# Altium integrated library Micron Memory Parallel NOR Flash.IntLib: 720 symbols (part 122 of 216)
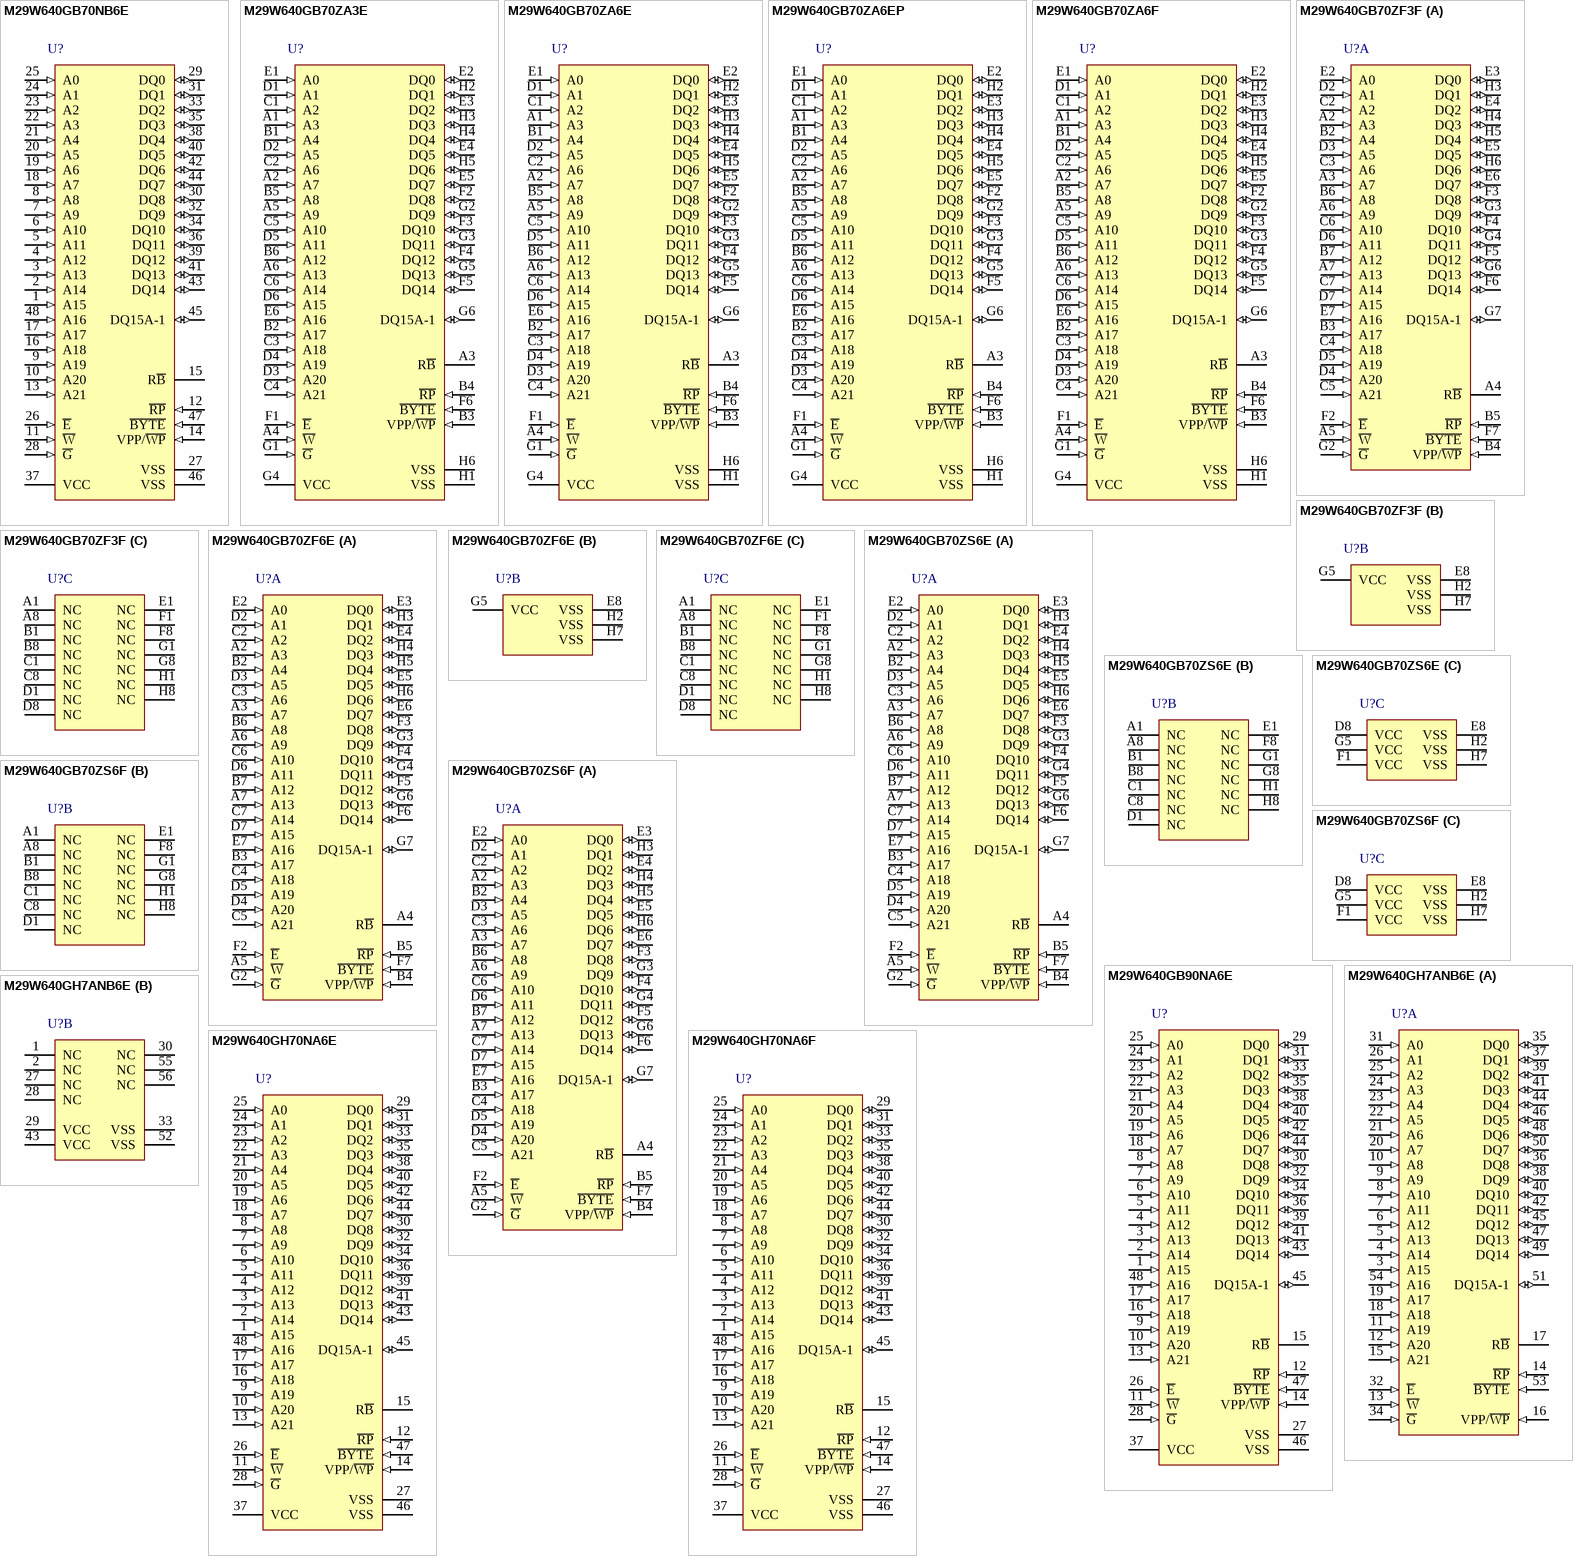
[diagram p164: symbols M29W640GB70NB6E to M29W640GH70NA6F]

## M29W640GH7ANB6E
designator U?
64 Mb (x8/x16) Automotive Parallel NOR Flash Memory, 70 ns, 2.7 to 3.6 V, 56-pin TSOP (NB), Tray; Part Family: M29W; Manufacturer: Micron; PartNumber: M29W640GH7ANB6E; Density: 64Mb; Op Temp: -40C to +85C; Speed: 70ns; Voltage: 2.7V-3.6V; DatasheetVersion: Rev. 11; PackageVersion: Rev. 11; PackageReference: MICT-NB-56; PackageDescription: 56-Pin TSOP, 18.4 X 14 mm, Pitch 0.5 mm; RoHS: Yes; Width: x8/x16; Mounting Technology: Surface Mount; ComponentLink1Description: Manufacturer URL; ComponentLink1URL: http://www.micron.com/; ComponentLink2Description: Datasheet; ComponentLink2URL: http://www.micron.com/~/media/Documents/Products/Data%20Sheet/NOR%20Flash/Parallel/P33/208034_P33_65nm_SBC_64M_128M_Discrete_DS.pdf; ComponentLink3Description: Package Specification; ComponentLink3URL: http://www.micron.com/~/media/Documents/Products/Data%20Sheet/NOR%20Flash/Parallel/P33/208034_P33_65nm_SBC_64M_128M_Discrete_DS.pdf
footprint MICT-NB-56_N (SOP, 56-Leads, Body 18.4x14mm, Pitch 0.5mm, IPC Medium Density)
part A pins: 3 A15 (in) "The Address Input select the cells in the memory array to access during bus read operations. During bus write operations they control the commands sent to the command interface of the program/erase controller.", 4 A14 (in) "The Address Input select the cells in the memory array to access during bus read operations. During bus write operations they control the commands sent to the command interface of the program/erase controller.", 5 A13 (in) "The Address Input select the cells in the memory array to access during bus read operations. During bus write operations they control the commands sent to the command interface of the program/erase controller.", 6 A12 (in) "The Address Input select the cells in the memory array to access during bus read operations. During bus write operations they control the commands sent to the command interface of the program/erase controller.", 7 A11 (in) "The Address Input select the cells in the memory array to access during bus read operations. During bus write operations they control the commands sent to the command interface of the program/erase controller.", 8 A10 (in) "The Address Input select the cells in the memory array to access during bus read operations. During bus write operations they control the commands sent to the command interface of the program/erase controller.", 9 A9 (in) "The Address Input select the cells in the memory array to access during bus read operations. During bus write operations they control the commands sent to the command interface of the program/erase controller.", 10 A8 (in) "The Address Input select the cells in the memory array to access during bus read operations. During bus write operations they control the commands sent to the command interface of the program/erase controller.", 11 A19 (in) "The Address Input select the cells in the memory array to access during bus read operations. During bus write operations they control the commands sent to the command interface of the program/erase controller.", 12 A20 (in) "The Address Input select the cells in the memory array to access during bus read operations. During bus write operations they control the commands sent to the command interface of the program/erase controller.", 13 ~{W} (in) "The Write Enable, W\, controls the bus write operation of the memory’s command interface.", 14 ~{RP} (in) "The Reset/Block Temporary Unprotect pin can be used to apply a hardware reset to the memory or to temporarily unprotect all blocks that have been protected. Note that if VPP/WP is at VIL, then the last and the first block in (See Datasheet)", 15 A21 (in) "The Address Input select the cells in the memory array to access during bus read operations. During bus write operations they control the commands sent to the command interface of the program/erase controller.", 16 VPP/~{WP} (in) "The VPP/Write Protect pin provides two functions. The VPP function allows the memory to use an external high voltage power supply to reduce the time required for Unlock Bypass Program operations. The Write Protect function (See Datasheet)", 17 R~{B} (hiz) "The Ready/Busy pin is an open-drain output that can be used to identify when the device is performing a program or erase operation. During program or erase operations Ready/Busy is Low, VOL. Ready/Busy is high-impedance (See Datasheet)", 18 A18 (in) "The Address Input select the cells in the memory array to access during bus read operations. During bus write operations they control the commands sent to the command interface of the program/erase controller.", 19 A17 (in) "The Address Input select the cells in the memory array to access during bus read operations. During bus write operations they control the commands sent to the command interface of the program/erase controller.", 20 A7 (in) "The Address Input select the cells in the memory array to access during bus read operations. During bus write operations they control the commands sent to the command interface of the program/erase controller.", 21 A6 (in) "The Address Input select the cells in the memory array to access during bus read operations. During bus write operations they control the commands sent to the command interface of the program/erase controller.", 22 A5 (in) "The Address Input select the cells in the memory array to access during bus read operations. During bus write operations they control the commands sent to the command interface of the program/erase controller.", 23 A4 (in) "The Address Input select the cells in the memory array to access during bus read operations. During bus write operations they control the commands sent to the command interface of the program/erase controller.", 24 A3 (in) "The Address Input select the cells in the memory array to access during bus read operations. During bus write operations they control the commands sent to the command interface of the program/erase controller.", 25 A2 (in) "The Address Input select the cells in the memory array to access during bus read operations. During bus write operations they control the commands sent to the command interface of the program/erase controller.", 26 A1 (in) "The Address Input select the cells in the memory array to access during bus read operations. During bus write operations they control the commands sent to the command interface of the program/erase controller.", 31 A0 (in) "The Address Input select the cells in the memory array to access during bus read operations. During bus write operations they control the commands sent to the command interface of the program/erase controller.", 32 ~{E} (in) "The Chip Enable, E\, activates the memory, allowing bus read and bus write operations to be performed. When Chip Enable is High, VIH, all other pins are ignored.", 34 ~{G} (in) "The Output Enable, G\, controls the bus read operation of the memory.", 35 DQ0 (io) "The Data I/O Output the data stored at the selected address during a bus read operation. During bus write operations they represent the commands sent to the command interface of the program/erase controller.", 36 DQ8 (io) "The Data I/O outputs the data stored at the selected address during a bus read operation when B\Y\T\E\ is High, VIH. When B\Y\T\E\ is Low, VIL, these pins are not used and are high impedance. During bus write operations the (See Datasheet)", 37 DQ1 (io) "The Data I/O Output the data stored at the selected address during a bus read operation. During bus write operations they represent the commands sent to the command interface of the program/erase controller.", 38 DQ9 (io) "The Data I/O outputs the data stored at the selected address during a bus read operation when B\Y\T\E\ is High, VIH. When B\Y\T\E\ is Low, VIL, these pins are not used and are high impedance. During bus write operations the (See Datasheet)", 39 DQ2 (io) "The Data I/O Output the data stored at the selected address during a bus read operation. During bus write operations they represent the commands sent to the command interface of the program/erase controller.", 40 DQ10 (io) "The Data I/O outputs the data stored at the selected address during a bus read operation when B\Y\T\E\ is High, VIH. When B\Y\T\E\ is Low, VIL, these pins are not used and are high impedance. During bus write operations the (See Datasheet)", 41 DQ3 (io) "The Data I/O outputs the data stored at the selected address during a bus read operation. During bus write operations they represent the commands sent to the command interface of the program/erase controller.", 42 DQ11 (io) "The Data I/O outputs the data stored at the selected address during a bus read operation when B\Y\T\E\ is High, VIH. When B\Y\T\E\ is Low, VIL, these pins are not used and are high impedance. During bus write operations the (See Datasheet)", 44 DQ4 (io) "The Data I/O OUTPUT the data stored at the selected address during a bus read operation. During bus write operations they represent the commands sent to the command interface of the program/erase controller.", 45 DQ12 (io) "The Data I/O outputs the data stored at the selected address during a bus read operation when B\Y\T\E\ is High, VIH. When B\Y\T\E\ is Low, VIL, these pins are not used and are high impedance. During bus write operations the (See Datasheet)", 46 DQ5 (io) "The Data I/O outputs the data stored at the selected address during a bus read operation. During bus write operations they represent the commands sent to the command interface of the program/erase controller.", 47 DQ13 (io) "The Data I/O outputs the data stored at the selected address during a bus read operation when B\Y\T\E\ is High, VIH. When B\Y\T\E\ is Low, VIL, these pins are not used and are high impedance. During bus write operations the (See Datasheet)", 48 DQ6 (io) "The Data I/O outputs the data stored at the selected address during a bus read operation. During bus write operations they represent the commands sent to the command interface of the program/erase controller.", 49 DQ14 (io) "The Data I/O outputs the data stored at the selected address during a bus read operation when B\Y\T\E\ is High, VIH. When B\Y\T\E\ is Low, VIL, these pins are not used and are high impedance. During bus write operations the (See Datasheet)", 50 DQ7 (io) "The Data I/O outputs the data stored at the selected address during a bus read operation. During bus write operations they represent the commands sent to the command interface of the program/erase controller.", 51 DQ15A-1 (io) "When B\Y\T\E\ is High, VIH, this pin behaves as a Data Input/Output pin (as DQ8-DQ14). When B\Y\T\E\ is Low, VIL, this pin behaves as an address pin; DQ15A-1 Low will select the LSB of the addressed word, DQ15A-1 High will (See Datasheet)", 53 ~{BYTE} (in) "The Byte/Word Organization Select pin is used to switch between the x8 and x16 bus modes of the memory. When Byte/Word Organization Select is Low, VIL, the memory is in x8 mode, when it is High, VIH, the memory is in x16 (See Datasheet)", 54 A16 (in) "The Address Input select the cells in the memory array to access during bus read operations. During bus write operations they control the commands sent to the command interface of the program/erase controller."
part B pins: 1 NC "Not connected internally", 2 NC "Not connected internally", 27 NC "Not connected internally", 28 NC "Not connected internally", 29 VCC (power) "VCC provides the power supply for all operations (read, program and erase). The command interface is disabled when the VCC supply voltage is less than the lockout voltage, VLKO. This prevents bus write operations from (See Datasheet)", 30 NC "Not connected internally", 33 VSS (power) "VSS is the reference for all voltage measurements. The device features two VSS pins which must be both connected to the system ground.", 43 VCC (power) "VCC provides the power supply for all operations (read, program and erase). The command interface is disabled when the VCC supply voltage is less than the lockout voltage, VLKO. This prevents bus write operations from (See Datasheet)", 52 VSS (power) "VSS is the reference for all voltage measurements. The device features two VSS pins which must be both connected to the system ground.", 55 NC "Not connected internally", 56 NC "Not connected internally"

## M29W640GH70NA6E
designator U?
64 Mb (x8/x16) Parallel NOR Flash Memory, 70 ns, 2.7 to 3.6 V, 48-pin TSOP (NA), Tray; Part Family: M29W; Manufacturer: Micron; PartNumber: M29W640GH70NA6E; Density: 64Mb; Op Temp: -40C to +85C; Speed: 70ns; Voltage: 2.7V-3.6V; DatasheetVersion: Rev. 11; PackageVersion: Rev. 11; PackageReference: MICT-NA-48; PackageDescription: 48-Pin TSOP, 18.4 X 12 mm, Pitch 0.5 mm; RoHS: Yes; Width: x8/x16; Mounting Technology: Surface Mount; ComponentLink1Description: Manufacturer URL; ComponentLink1URL: http://www.micron.com/; ComponentLink2Description: Datasheet; ComponentLink2URL: http://www.micron.com/~/media/Documents/Products/Data%20Sheet/NOR%20Flash/Parallel/P33/208034_P33_65nm_SBC_64M_128M_Discrete_DS.pdf; ComponentLink3Description: Package Specification; ComponentLink3URL: http://www.micron.com/~/media/Documents/Products/Data%20Sheet/NOR%20Flash/Parallel/P33/208034_P33_65nm_SBC_64M_128M_Discrete_DS.pdf
footprint MICT-NA-48_N (SOP, 48-Leads, Body 18.5x12.1mm, Pitch 0.5mm, IPC Medium Density)
pins: 1 A15 (in) "The Address Input select the cells in the memory array to access during bus read operations. During bus write operations they control the commands sent to the command interface of the program/erase controller.", 2 A14 (in) "The Address Input select the cells in the memory array to access during bus read operations. During bus write operations they control the commands sent to the command interface of the program/erase controller.", 3 A13 (in) "The Address Input select the cells in the memory array to access during bus read operations. During bus write operations they control the commands sent to the command interface of the program/erase controller.", 4 A12 (in) "The Address Input select the cells in the memory array to access during bus read operations. During bus write operations they control the commands sent to the command interface of the program/erase controller.", 5 A11 (in) "The Address Input select the cells in the memory array to access during bus read operations. During bus write operations they control the commands sent to the command interface of the program/erase controller.", 6 A10 (in) "The Address Input select the cells in the memory array to access during bus read operations. During bus write operations they control the commands sent to the command interface of the program/erase controller.", 7 A9 (in) "The Address Input select the cells in the memory array to access during bus read operations. During bus write operations they control the commands sent to the command interface of the program/erase controller.", 8 A8 (in) "The Address Input select the cells in the memory array to access during bus read operations. During bus write operations they control the commands sent to the command interface of the program/erase controller.", 9 A19 (in) "The Address Input select the cells in the memory array to access during bus read operations. During bus write operations they control the commands sent to the command interface of the program/erase controller.", 10 A20 (in) "The Address Input select the cells in the memory array to access during bus read operations. During bus write operations they control the commands sent to the command interface of the program/erase controller.", 11 ~{W} (in) "The Write Enable, W\, controls the bus write operation of the memory’s command interface.", 12 ~{RP} (in) "The Reset/Block Temporary Unprotect pin can be used to apply a hardware reset to the memory or to temporarily unprotect all blocks that have been protected.", 13 A21 (in) "The Address Input select the cells in the memory array to access during bus read operations. During bus write operations they control the commands sent to the command interface of the program/erase controller.", 14 VPP/~{WP} (in) "The VPP/Write Protect pin provides two functions. The VPP function allows the memory to use an external high voltage power supply to reduce the time required for Unlock Bypass Program operations.", 15 R~{B} (hiz) "The Ready/Busy pin is an open-drain output that can be used to identify when the device is performing a program or erase operation. During program or erase operations Ready/Busy is Low, VOL. Ready/Busy is high-impedance (See Datasheet)", 16 A18 (in) "The Address Input select the cells in the memory array to access during bus read operations. During bus write operations they control the commands sent to the command interface of the program/erase controller.", 17 A17 (in) "The Address Input select the cells in the memory array to access during bus read operations. During bus write operations they control the commands sent to the command interface of the program/erase controller.", 18 A7 (in) "The Address Input select the cells in the memory array to access during bus read operations. During bus write operations they control the commands sent to the command interface of the program/erase controller.", 19 A6 (in) "The Address Input select the cells in the memory array to access during bus read operations. During bus write operations they control the commands sent to the command interface of the program/erase controller.", 20 A5 (in) "The Address Input select the cells in the memory array to access during bus read operations. During bus write operations they control the commands sent to the command interface of the program/erase controller.", 21 A4 (in) "The Address Input select the cells in the memory array to access during bus read operations. During bus write operations they control the commands sent to the command interface of the program/erase controller.", 22 A3 (in) "The Address Input select the cells in the memory array to access during bus read operations. During bus write operations they control the commands sent to the command interface of the program/erase controller.", 23 A2 (in) "The Address Input select the cells in the memory array to access during bus read operations. During bus write operations they control the commands sent to the command interface of the program/erase controller.", 24 A1 (in) "The Address Input select the cells in the memory array to access during bus read operations. During bus write operations they control the commands sent to the command interface of the program/erase controller.", 25 A0 (in) "The Address Input select the cells in the memory array to access during bus read operations. During bus write operations they control the commands sent to the command interface of the program/erase controller.", 26 ~{E} (in) "The Chip Enable, E\, activates the memory, allowing bus read and bus write operations to be performed. When Chip Enable is High, VIH, all other pins are ignored.", 27 VSS (power) "VSS is the reference for all voltage measurements. The device features two VSS pins which must be both connected to the system ground.", 28 ~{G} (in) "The Output Enable, G\, controls the bus read operation of the memory.", 29 DQ0 (io) "The Data I/O Output the data stored at the selected address during a bus read operation. During bus write operations they represent the commands sent to the command interface of the program/erase controller.", 30 DQ8 (io) "The Data I/O outputs the data stored at the selected address during a bus read operation when B\Y\T\E\ is High, VIH. When B\Y\T\E\ is Low, VIL, these pins are not used and are high impedance. During bus write operations the (See Datasheet)", 31 DQ1 (io) "The Data I/O Output the data stored at the selected address during a bus read operation. During bus write operations they represent the commands sent to the command interface of the program/erase controller.", 32 DQ9 (io) "The Data I/O outputs the data stored at the selected address during a bus read operation when B\Y\T\E\ is High, VIH. When B\Y\T\E\ is Low, VIL, these pins are not used and are high impedance. During bus write operations the (See Datasheet)", 33 DQ2 (io) "The Data I/O Output the data stored at the selected address during a bus read operation. During bus write operations they represent the commands sent to the command interface of the program/erase controller.", 34 DQ10 (io) "The Data I/O outputs the data stored at the selected address during a bus read operation when B\Y\T\E\ is High, VIH. When B\Y\T\E\ is Low, VIL, these pins are not used and are high impedance. During bus write operations the (See Datasheet)", 35 DQ3 (io) "The Data I/O outputs the data stored at the selected address during a bus read operation. During bus write operations they represent the commands sent to the command interface of the program/erase controller.", 36 DQ11 (io) "The Data I/O outputs the data stored at the selected address during a bus read operation when B\Y\T\E\ is High, VIH. When B\Y\T\E\ is Low, VIL, these pins are not used and are high impedance. During bus write operations the (See Datasheet)", 37 VCC (power) "VCC provides the power supply for all operations (read, program and erase).The command interface is disabled when the VCC supply voltage is less than the lockout voltage, VLKO. This prevents bus write operations from (See Datasheet)", 38 DQ4 (io) "The Data I/O OUTPUT the data stored at the selected address during a bus read operation. During bus write operations they represent the commands sent to the command interface of the program/erase controller.", 39 DQ12 (io) "The Data I/O outputs the data stored at the selected address during a bus read operation when B\Y\T\E\ is High, VIH. When B\Y\T\E\ is Low, VIL, these pins are not used and are high impedance. During bus write operations the (See Datasheet)", 40 DQ5 (io) "The Data I/O outputs the data stored at the selected address during a bus read operation. During bus write operations they represent the commands sent to the command interface of the program/erase controller.", 41 DQ13 (io) "The Data I/O outputs the data stored at the selected address during a bus read operation when B\Y\T\E\ is High, VIH. When B\Y\T\E\ is Low, VIL, these pins are not used and are high impedance. During bus write operations the (See Datasheet)", 42 DQ6 (io) "The Data I/O outputs the data stored at the selected address during a bus read operation. During bus write operations they represent the commands sent to the command interface of the program/erase controller.", 43 DQ14 (io) "The Data I/O outputs the data stored at the selected address during a bus read operation when B\Y\T\E\ is High, VIH. When B\Y\T\E\ is Low, VIL, these pins are not used and are high impedance. During bus write operations the (See Datasheet)", 44 DQ7 (io) "The Data I/O outputs the data stored at the selected address during a bus read operation. During bus write operations they represent the commands sent to the command interface of the program/erase controller.", 45 DQ15A-1 (io) "When B\Y\T\E\ is High, VIH, this pin behaves as a Data Input/Output pin (as DQ8-DQ14). When B\Y\T\E\ is Low, VIL, this pin behaves as an address pin; DQ15A-1 Low will select the LSB of the addressed word, DQ15A-1 High will (See Datasheet)", 46 VSS (power) "VSS is the reference for all voltage measurements. The device features two VSS pins which must be both connected to the system ground.", 47 ~{BYTE} (in) "The Byte/Word Organization Select pin is used to switch between the x8 and x16 bus modes of the memory. When Byte/Word Organization Select is Low, VIL, the memory is in x8 mode, when it is High, VIH, the memory is in x16 (See Datasheet)", 48 A16 (in) "The Address Input select the cells in the memory array to access during bus read operations. During bus write operations they control the commands sent to the command interface of the program/erase controller."

## M29W640GH70NA6F
designator U?
64 Mb (x8/x16) Parallel NOR Flash Memory, 70 ns, 2.7 to 3.6 V, 48-pin TSOP (NA), Tape & Reel; Part Family: M29W; Manufacturer: Micron; PartNumber: M29W640GH70NA6F; Density: 64Mb; Op Temp: -40C to +85C; Speed: 70ns; Voltage: 2.7V-3.6V; DatasheetVersion: Rev. 11; PackageVersion: Rev. 11; PackageReference: MICT-NA-48; PackageDescription: 48-Pin TSOP, 18.4 X 12 mm, Pitch 0.5 mm; RoHS: Yes; Width: x8/x16; Mounting Technology: Surface Mount; ComponentLink1Description: Manufacturer URL; ComponentLink1URL: http://www.micron.com/; ComponentLink2Description: Datasheet; ComponentLink2URL: http://www.micron.com/~/media/Documents/Products/Data%20Sheet/NOR%20Flash/Parallel/P33/208034_P33_65nm_SBC_64M_128M_Discrete_DS.pdf; ComponentLink3Description: Package Specification; ComponentLink3URL: http://www.micron.com/~/media/Documents/Products/Data%20Sheet/NOR%20Flash/Parallel/P33/208034_P33_65nm_SBC_64M_128M_Discrete_DS.pdf
footprint MICT-NA-48_N (SOP, 48-Leads, Body 18.5x12.1mm, Pitch 0.5mm, IPC Medium Density)
pins: 1 A15 (in) "The Address Input select the cells in the memory array to access during bus read operations. During bus write operations they control the commands sent to the command interface of the program/erase controller.", 2 A14 (in) "The Address Input select the cells in the memory array to access during bus read operations. During bus write operations they control the commands sent to the command interface of the program/erase controller.", 3 A13 (in) "The Address Input select the cells in the memory array to access during bus read operations. During bus write operations they control the commands sent to the command interface of the program/erase controller.", 4 A12 (in) "The Address Input select the cells in the memory array to access during bus read operations. During bus write operations they control the commands sent to the command interface of the program/erase controller.", 5 A11 (in) "The Address Input select the cells in the memory array to access during bus read operations. During bus write operations they control the commands sent to the command interface of the program/erase controller.", 6 A10 (in) "The Address Input select the cells in the memory array to access during bus read operations. During bus write operations they control the commands sent to the command interface of the program/erase controller.", 7 A9 (in) "The Address Input select the cells in the memory array to access during bus read operations. During bus write operations they control the commands sent to the command interface of the program/erase controller.", 8 A8 (in) "The Address Input select the cells in the memory array to access during bus read operations. During bus write operations they control the commands sent to the command interface of the program/erase controller.", 9 A19 (in) "The Address Input select the cells in the memory array to access during bus read operations. During bus write operations they control the commands sent to the command interface of the program/erase controller.", 10 A20 (in) "The Address Input select the cells in the memory array to access during bus read operations. During bus write operations they control the commands sent to the command interface of the program/erase controller.", 11 ~{W} (in) "The Write Enable, W\, controls the bus write operation of the memory’s command interface.", 12 ~{RP} (in) "The Reset/Block Temporary Unprotect pin can be used to apply a hardware reset to the memory or to temporarily unprotect all blocks that have been protected.", 13 A21 (in) "The Address Input select the cells in the memory array to access during bus read operations. During bus write operations they control the commands sent to the command interface of the program/erase controller.", 14 VPP/~{WP} (in) "The VPP/Write Protect pin provides two functions. The VPP function allows the memory to use an external high voltage power supply to reduce the time required for Unlock Bypass Program operations.", 15 R~{B} (hiz) "The Ready/Busy pin is an open-drain output that can be used to identify when the device is performing a program or erase operation. During program or erase operations Ready/Busy is Low, VOL. Ready/Busy is high-impedance (See Datasheet)", 16 A18 (in) "The Address Input select the cells in the memory array to access during bus read operations. During bus write operations they control the commands sent to the command interface of the program/erase controller.", 17 A17 (in) "The Address Input select the cells in the memory array to access during bus read operations. During bus write operations they control the commands sent to the command interface of the program/erase controller.", 18 A7 (in) "The Address Input select the cells in the memory array to access during bus read operations. During bus write operations they control the commands sent to the command interface of the program/erase controller.", 19 A6 (in) "The Address Input select the cells in the memory array to access during bus read operations. During bus write operations they control the commands sent to the command interface of the program/erase controller.", 20 A5 (in) "The Address Input select the cells in the memory array to access during bus read operations. During bus write operations they control the commands sent to the command interface of the program/erase controller.", 21 A4 (in) "The Address Input select the cells in the memory array to access during bus read operations. During bus write operations they control the commands sent to the command interface of the program/erase controller.", 22 A3 (in) "The Address Input select the cells in the memory array to access during bus read operations. During bus write operations they control the commands sent to the command interface of the program/erase controller.", 23 A2 (in) "The Address Input select the cells in the memory array to access during bus read operations. During bus write operations they control the commands sent to the command interface of the program/erase controller.", 24 A1 (in) "The Address Input select the cells in the memory array to access during bus read operations. During bus write operations they control the commands sent to the command interface of the program/erase controller.", 25 A0 (in) "The Address Input select the cells in the memory array to access during bus read operations. During bus write operations they control the commands sent to the command interface of the program/erase controller.", 26 ~{E} (in) "The Chip Enable, E\, activates the memory, allowing bus read and bus write operations to be performed. When Chip Enable is High, VIH, all other pins are ignored.", 27 VSS (power) "VSS is the reference for all voltage measurements. The device features two VSS pins which must be both connected to the system ground.", 28 ~{G} (in) "The Output Enable, G\, controls the bus read operation of the memory.", 29 DQ0 (io) "The Data I/O Output the data stored at the selected address during a bus read operation. During bus write operations they represent the commands sent to the command interface of the program/erase controller.", 30 DQ8 (io) "The Data I/O outputs the data stored at the selected address during a bus read operation when B\Y\T\E\ is High, VIH. When B\Y\T\E\ is Low, VIL, these pins are not used and are high impedance. During bus write operations the (See Datasheet)", 31 DQ1 (io) "The Data I/O Output the data stored at the selected address during a bus read operation. During bus write operations they represent the commands sent to the command interface of the program/erase controller.", 32 DQ9 (io) "The Data I/O outputs the data stored at the selected address during a bus read operation when B\Y\T\E\ is High, VIH. When B\Y\T\E\ is Low, VIL, these pins are not used and are high impedance. During bus write operations the (See Datasheet)", 33 DQ2 (io) "The Data I/O Output the data stored at the selected address during a bus read operation. During bus write operations they represent the commands sent to the command interface of the program/erase controller.", 34 DQ10 (io) "The Data I/O outputs the data stored at the selected address during a bus read operation when B\Y\T\E\ is High, VIH. When B\Y\T\E\ is Low, VIL, these pins are not used and are high impedance. During bus write operations the (See Datasheet)", 35 DQ3 (io) "The Data I/O outputs the data stored at the selected address during a bus read operation. During bus write operations they represent the commands sent to the command interface of the program/erase controller.", 36 DQ11 (io) "The Data I/O outputs the data stored at the selected address during a bus read operation when B\Y\T\E\ is High, VIH. When B\Y\T\E\ is Low, VIL, these pins are not used and are high impedance. During bus write operations the (See Datasheet)", 37 VCC (power) "VCC provides the power supply for all operations (read, program and erase).The command interface is disabled when the VCC supply voltage is less than the lockout voltage, VLKO. This prevents bus write operations from (See Datasheet)", 38 DQ4 (io) "The Data I/O OUTPUT the data stored at the selected address during a bus read operation. During bus write operations they represent the commands sent to the command interface of the program/erase controller.", 39 DQ12 (io) "The Data I/O outputs the data stored at the selected address during a bus read operation when B\Y\T\E\ is High, VIH. When B\Y\T\E\ is Low, VIL, these pins are not used and are high impedance. During bus write operations the (See Datasheet)", 40 DQ5 (io) "The Data I/O outputs the data stored at the selected address during a bus read operation. During bus write operations they represent the commands sent to the command interface of the program/erase controller.", 41 DQ13 (io) "The Data I/O outputs the data stored at the selected address during a bus read operation when B\Y\T\E\ is High, VIH. When B\Y\T\E\ is Low, VIL, these pins are not used and are high impedance. During bus write operations the (See Datasheet)", 42 DQ6 (io) "The Data I/O outputs the data stored at the selected address during a bus read operation. During bus write operations they represent the commands sent to the command interface of the program/erase controller.", 43 DQ14 (io) "The Data I/O outputs the data stored at the selected address during a bus read operation when B\Y\T\E\ is High, VIH. When B\Y\T\E\ is Low, VIL, these pins are not used and are high impedance. During bus write operations the (See Datasheet)", 44 DQ7 (io) "The Data I/O outputs the data stored at the selected address during a bus read operation. During bus write operations they represent the commands sent to the command interface of the program/erase controller.", 45 DQ15A-1 (io) "When B\Y\T\E\ is High, VIH, this pin behaves as a Data Input/Output pin (as DQ8-DQ14). When B\Y\T\E\ is Low, VIL, this pin behaves as an address pin; DQ15A-1 Low will select the LSB of the addressed word, DQ15A-1 High will (See Datasheet)", 46 VSS (power) "VSS is the reference for all voltage measurements. The device features two VSS pins which must be both connected to the system ground.", 47 ~{BYTE} (in) "The Byte/Word Organization Select pin is used to switch between the x8 and x16 bus modes of the memory. When Byte/Word Organization Select is Low, VIL, the memory is in x8 mode, when it is High, VIH, the memory is in x16 (See Datasheet)", 48 A16 (in) "The Address Input select the cells in the memory array to access during bus read operations. During bus write operations they control the commands sent to the command interface of the program/erase controller."

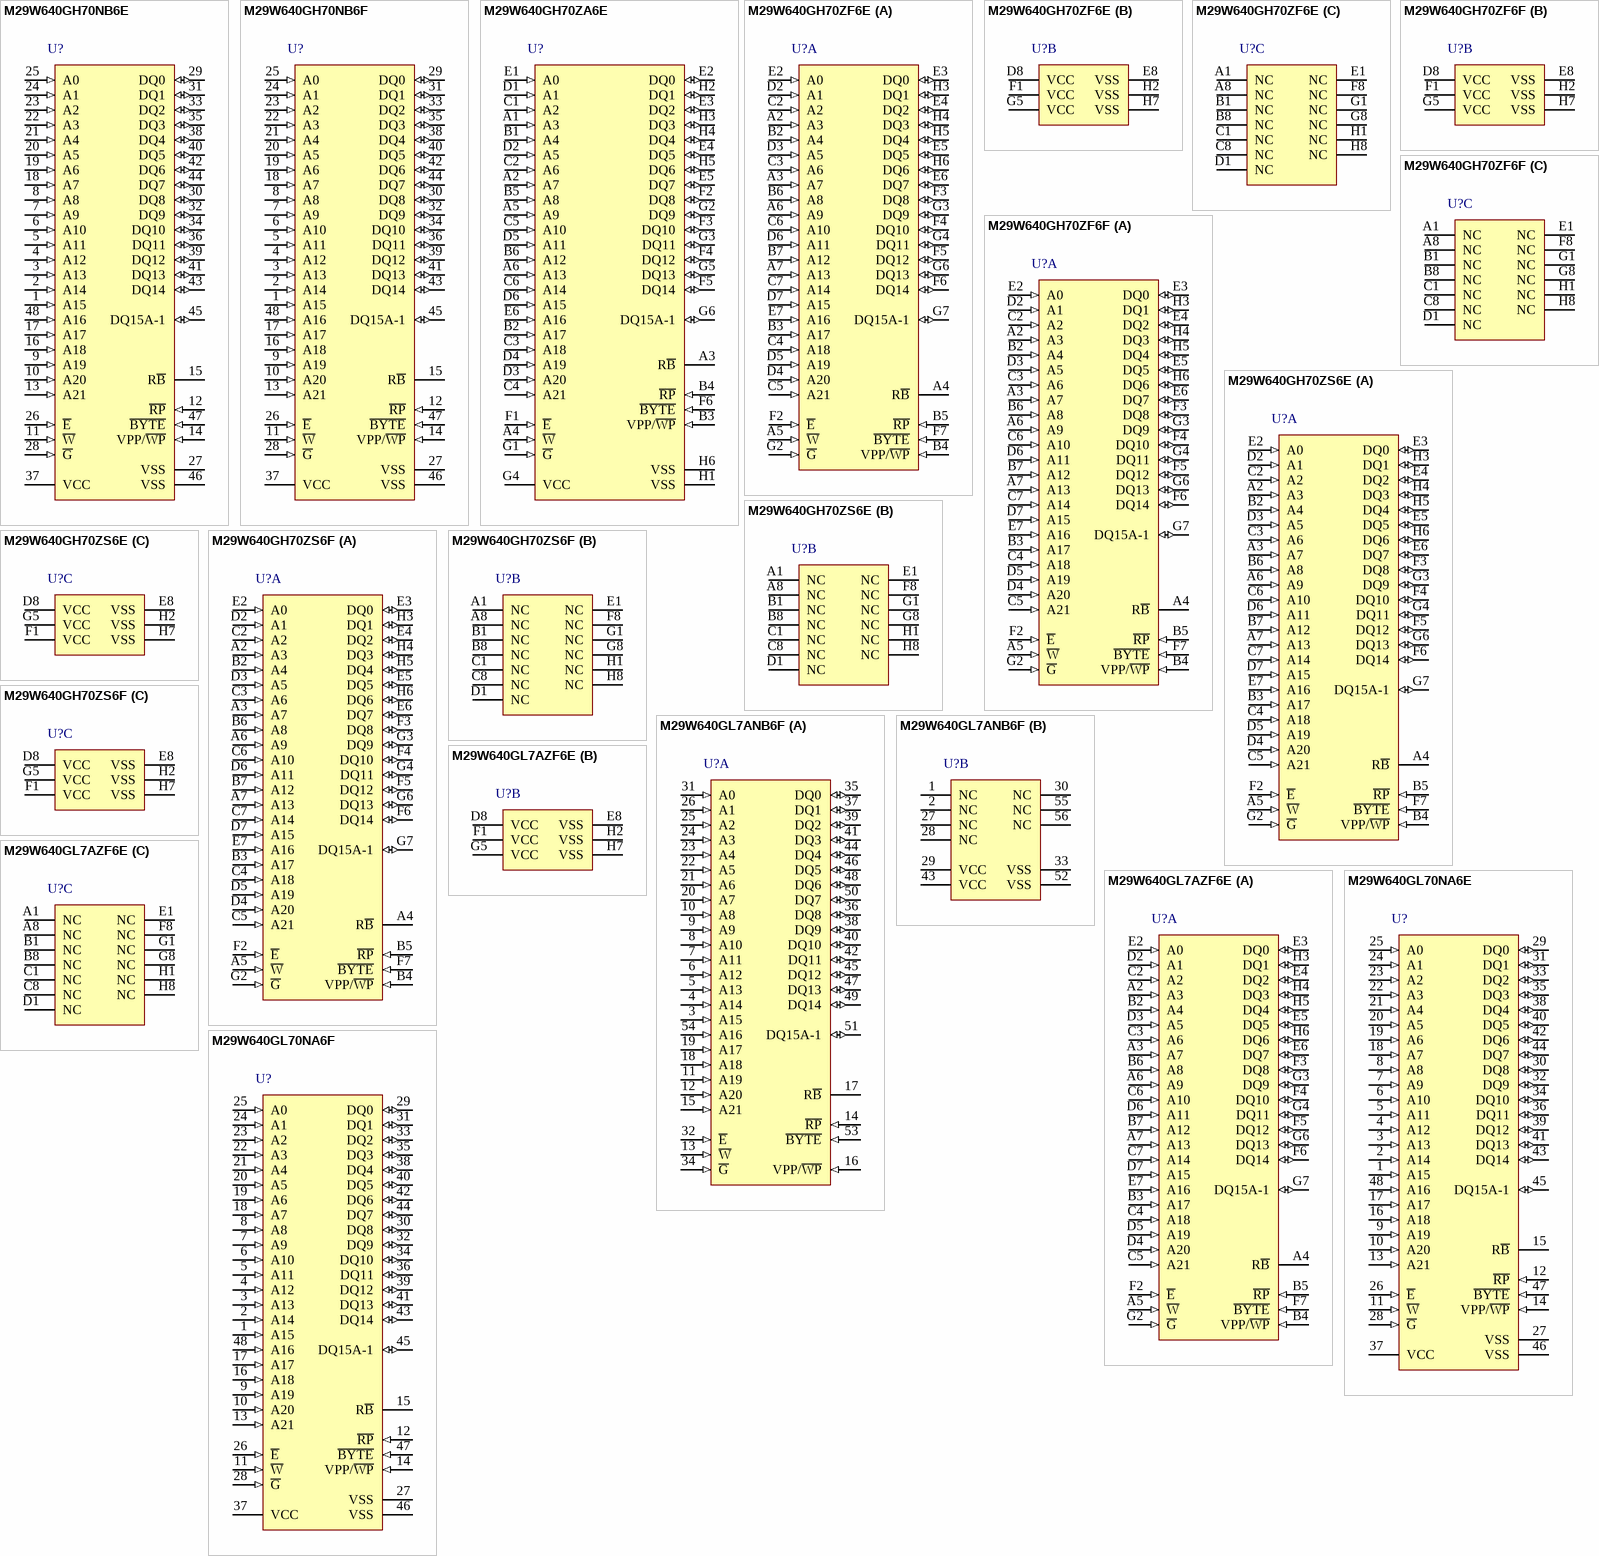
[diagram p33: symbols M29W640GH70NB6E to M29W640GL70NA6F]

## M29W640GH70NB6E
designator U?
64 Mb (x8/x16) Parallel NOR Flash Memory, 70 ns, 2.7 to 3.6 V, 56-pin TSOP (NA), Tray; Part Family: M29W; Manufacturer: Micron; PartNumber: M29W640GH70NB6E; Density: 64Mb; Op Temp: -40C to +85C; Speed: 70ns; Voltage: 2.7V-3.6V; DatasheetVersion: Rev. 11; PackageVersion: Rev. 11; PackageReference: MICT-NB-56; PackageDescription: 56-Pin TSOP, 18.4 X 14 mm, Pitch 0.5 mm; RoHS: Yes; Width: x8/x16; Mounting Technology: Surface Mount; ComponentLink1Description: Manufacturer URL; ComponentLink1URL: http://www.micron.com/; ComponentLink2Description: Datasheet; ComponentLink2URL: http://www.micron.com/~/media/Documents/Products/Data%20Sheet/NOR%20Flash/Parallel/P33/208034_P33_65nm_SBC_64M_128M_Discrete_DS.pdf; ComponentLink3Description: Package Specification; ComponentLink3URL: http://www.micron.com/~/media/Documents/Products/Data%20Sheet/NOR%20Flash/Parallel/P33/208034_P33_65nm_SBC_64M_128M_Discrete_DS.pdf
footprint MICT-NB-56_N (SOP, 56-Leads, Body 18.4x14mm, Pitch 0.5mm, IPC Medium Density)
pins: 1 A15 (in) "The Address Input select the cells in the memory array to access during bus read operations. During bus write operations they control the commands sent to the command interface of the program/erase controller.", 2 A14 (in) "The Address Input select the cells in the memory array to access during bus read operations. During bus write operations they control the commands sent to the command interface of the program/erase controller.", 3 A13 (in) "The Address Input select the cells in the memory array to access during bus read operations. During bus write operations they control the commands sent to the command interface of the program/erase controller.", 4 A12 (in) "The Address Input select the cells in the memory array to access during bus read operations. During bus write operations they control the commands sent to the command interface of the program/erase controller.", 5 A11 (in) "The Address Input select the cells in the memory array to access during bus read operations. During bus write operations they control the commands sent to the command interface of the program/erase controller.", 6 A10 (in) "The Address Input select the cells in the memory array to access during bus read operations. During bus write operations they control the commands sent to the command interface of the program/erase controller.", 7 A9 (in) "The Address Input select the cells in the memory array to access during bus read operations. During bus write operations they control the commands sent to the command interface of the program/erase controller.", 8 A8 (in) "The Address Input select the cells in the memory array to access during bus read operations. During bus write operations they control the commands sent to the command interface of the program/erase controller.", 9 A19 (in) "The Address Input select the cells in the memory array to access during bus read operations. During bus write operations they control the commands sent to the command interface of the program/erase controller.", 10 A20 (in) "The Address Input select the cells in the memory array to access during bus read operations. During bus write operations they control the commands sent to the command interface of the program/erase controller.", 11 ~{W} (in) "The Write Enable, W\, controls the bus write operation of the memory’s command interface.", 12 ~{RP} (in) "The Reset/Block Temporary Unprotect pin can be used to apply a hardware reset to the memory or to temporarily unprotect all blocks that have been protected.", 13 A21 (in) "The Address Input select the cells in the memory array to access during bus read operations. During bus write operations they control the commands sent to the command interface of the program/erase controller.", 14 VPP/~{WP} (in) "The VPP/Write Protect pin provides two functions. The VPP function allows the memory to use an external high voltage power supply to reduce the time required for Unlock Bypass Program operations.", 15 R~{B} (hiz) "The Ready/Busy pin is an open-drain output that can be used to identify when the device is performing a program or erase operation. During program or erase operations Ready/Busy is Low, VOL. Ready/Busy is high-impedance (See Datasheet)", 16 A18 (in) "The Address Input select the cells in the memory array to access during bus read operations. During bus write operations they control the commands sent to the command interface of the program/erase controller.", 17 A17 (in) "The Address Input select the cells in the memory array to access during bus read operations. During bus write operations they control the commands sent to the command interface of the program/erase controller.", 18 A7 (in) "The Address Input select the cells in the memory array to access during bus read operations. During bus write operations they control the commands sent to the command interface of the program/erase controller.", 19 A6 (in) "The Address Input select the cells in the memory array to access during bus read operations. During bus write operations they control the commands sent to the command interface of the program/erase controller.", 20 A5 (in) "The Address Input select the cells in the memory array to access during bus read operations. During bus write operations they control the commands sent to the command interface of the program/erase controller.", 21 A4 (in) "The Address Input select the cells in the memory array to access during bus read operations. During bus write operations they control the commands sent to the command interface of the program/erase controller.", 22 A3 (in) "The Address Input select the cells in the memory array to access during bus read operations. During bus write operations they control the commands sent to the command interface of the program/erase controller.", 23 A2 (in) "The Address Input select the cells in the memory array to access during bus read operations. During bus write operations they control the commands sent to the command interface of the program/erase controller.", 24 A1 (in) "The Address Input select the cells in the memory array to access during bus read operations. During bus write operations they control the commands sent to the command interface of the program/erase controller.", 25 A0 (in) "The Address Input select the cells in the memory array to access during bus read operations. During bus write operations they control the commands sent to the command interface of the program/erase controller.", 26 ~{E} (in) "The Chip Enable, E\, activates the memory, allowing bus read and bus write operations to be performed. When Chip Enable is High, VIH, all other pins are ignored.", 27 VSS (power) "VSS is the reference for all voltage measurements. The device features two VSS pins which must be both connected to the system ground.", 28 ~{G} (in) "The Output Enable, G\, controls the bus read operation of the memory.", 29 DQ0 (io) "The Data I/O Output the data stored at the selected address during a bus read operation. During bus write operations they represent the commands sent to the command interface of the program/erase controller.", 30 DQ8 (io) "The Data I/O outputs the data stored at the selected address during a bus read operation when B\Y\T\E\ is High, VIH. When B\Y\T\E\ is Low, VIL, these pins are not used and are high impedance. During bus write operations the (See Datasheet)", 31 DQ1 (io) "The Data I/O Output the data stored at the selected address during a bus read operation. During bus write operations they represent the commands sent to the command interface of the program/erase controller.", 32 DQ9 (io) "The Data I/O outputs the data stored at the selected address during a bus read operation when B\Y\T\E\ is High, VIH. When B\Y\T\E\ is Low, VIL, these pins are not used and are high impedance. During bus write operations the (See Datasheet)", 33 DQ2 (io) "The Data I/O Output the data stored at the selected address during a bus read operation. During bus write operations they represent the commands sent to the command interface of the program/erase controller.", 34 DQ10 (io) "The Data I/O outputs the data stored at the selected address during a bus read operation when B\Y\T\E\ is High, VIH. When B\Y\T\E\ is Low, VIL, these pins are not used and are high impedance. During bus write operations the (See Datasheet)", 35 DQ3 (io) "The Data I/O outputs the data stored at the selected address during a bus read operation. During bus write operations they represent the commands sent to the command interface of the program/erase controller.", 36 DQ11 (io) "The Data I/O outputs the data stored at the selected address during a bus read operation when B\Y\T\E\ is High, VIH. When B\Y\T\E\ is Low, VIL, these pins are not used and are high impedance. During bus write operations the (See Datasheet)", 37 VCC (power) "VCC provides the power supply for all operations (read, program and erase).The command interface is disabled when the VCC supply voltage is less than the lockout voltage, VLKO. This prevents bus write operations from (See Datasheet)", 38 DQ4 (io) "The Data I/O OUTPUT the data stored at the selected address during a bus read operation. During bus write operations they represent the commands sent to the command interface of the program/erase controller.", 39 DQ12 (io) "The Data I/O outputs the data stored at the selected address during a bus read operation when B\Y\T\E\ is High, VIH. When B\Y\T\E\ is Low, VIL, these pins are not used and are high impedance. During bus write operations the (See Datasheet)", 40 DQ5 (io) "The Data I/O outputs the data stored at the selected address during a bus read operation. During bus write operations they represent the commands sent to the command interface of the program/erase controller.", 41 DQ13 (io) "The Data I/O outputs the data stored at the selected address during a bus read operation when B\Y\T\E\ is High, VIH. When B\Y\T\E\ is Low, VIL, these pins are not used and are high impedance. During bus write operations the (See Datasheet)", 42 DQ6 (io) "The Data I/O outputs the data stored at the selected address during a bus read operation. During bus write operations they represent the commands sent to the command interface of the program/erase controller.", 43 DQ14 (io) "The Data I/O outputs the data stored at the selected address during a bus read operation when B\Y\T\E\ is High, VIH. When B\Y\T\E\ is Low, VIL, these pins are not used and are high impedance. During bus write operations the (See Datasheet)", 44 DQ7 (io) "The Data I/O outputs the data stored at the selected address during a bus read operation. During bus write operations they represent the commands sent to the command interface of the program/erase controller.", 45 DQ15A-1 (io) "When B\Y\T\E\ is High, VIH, this pin behaves as a Data Input/Output pin (as DQ8-DQ14). When B\Y\T\E\ is Low, VIL, this pin behaves as an address pin; DQ15A-1 Low will select the LSB of the addressed word, DQ15A-1 High will (See Datasheet)", 46 VSS (power) "VSS is the reference for all voltage measurements. The device features two VSS pins which must be both connected to the system ground.", 47 ~{BYTE} (in) "The Byte/Word Organization Select pin is used to switch between the x8 and x16 bus modes of the memory. When Byte/Word Organization Select is Low, VIL, the memory is in x8 mode, when it is High, VIH, the memory is in x16 (See Datasheet)", 48 A16 (in) "The Address Input select the cells in the memory array to access during bus read operations. During bus write operations they control the commands sent to the command interface of the program/erase controller."